# EAGLE library part B8B-PHD-* (library jst-ph)
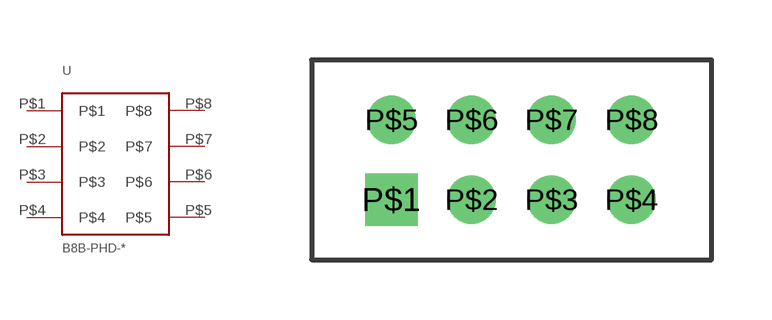
[diagram p22: symbol with the pads of B8B-PHD; footprint B8B-PHD]

Designator prefix -

## B8B-PHD-  [B8B-PHD]
P$1  P$1
P$2  P$2
P$3  P$3
P$4  P$4
P$5  P$5
P$6  P$6
P$7  P$7
P$8  P$8

## Footprint B8B-PHD (pad centres in mm)
drill 0.8 square: P$1 0,0
drill 0.7: P$2 2,0; P$3 4,0; P$4 6,0; P$5 0,2; P$6 2,2; P$7 4,2; P$8 6,2